# Altium integrated library TI Power Management PCMCIA and USB.IntLib: 328 symbols (part 11 of 14)
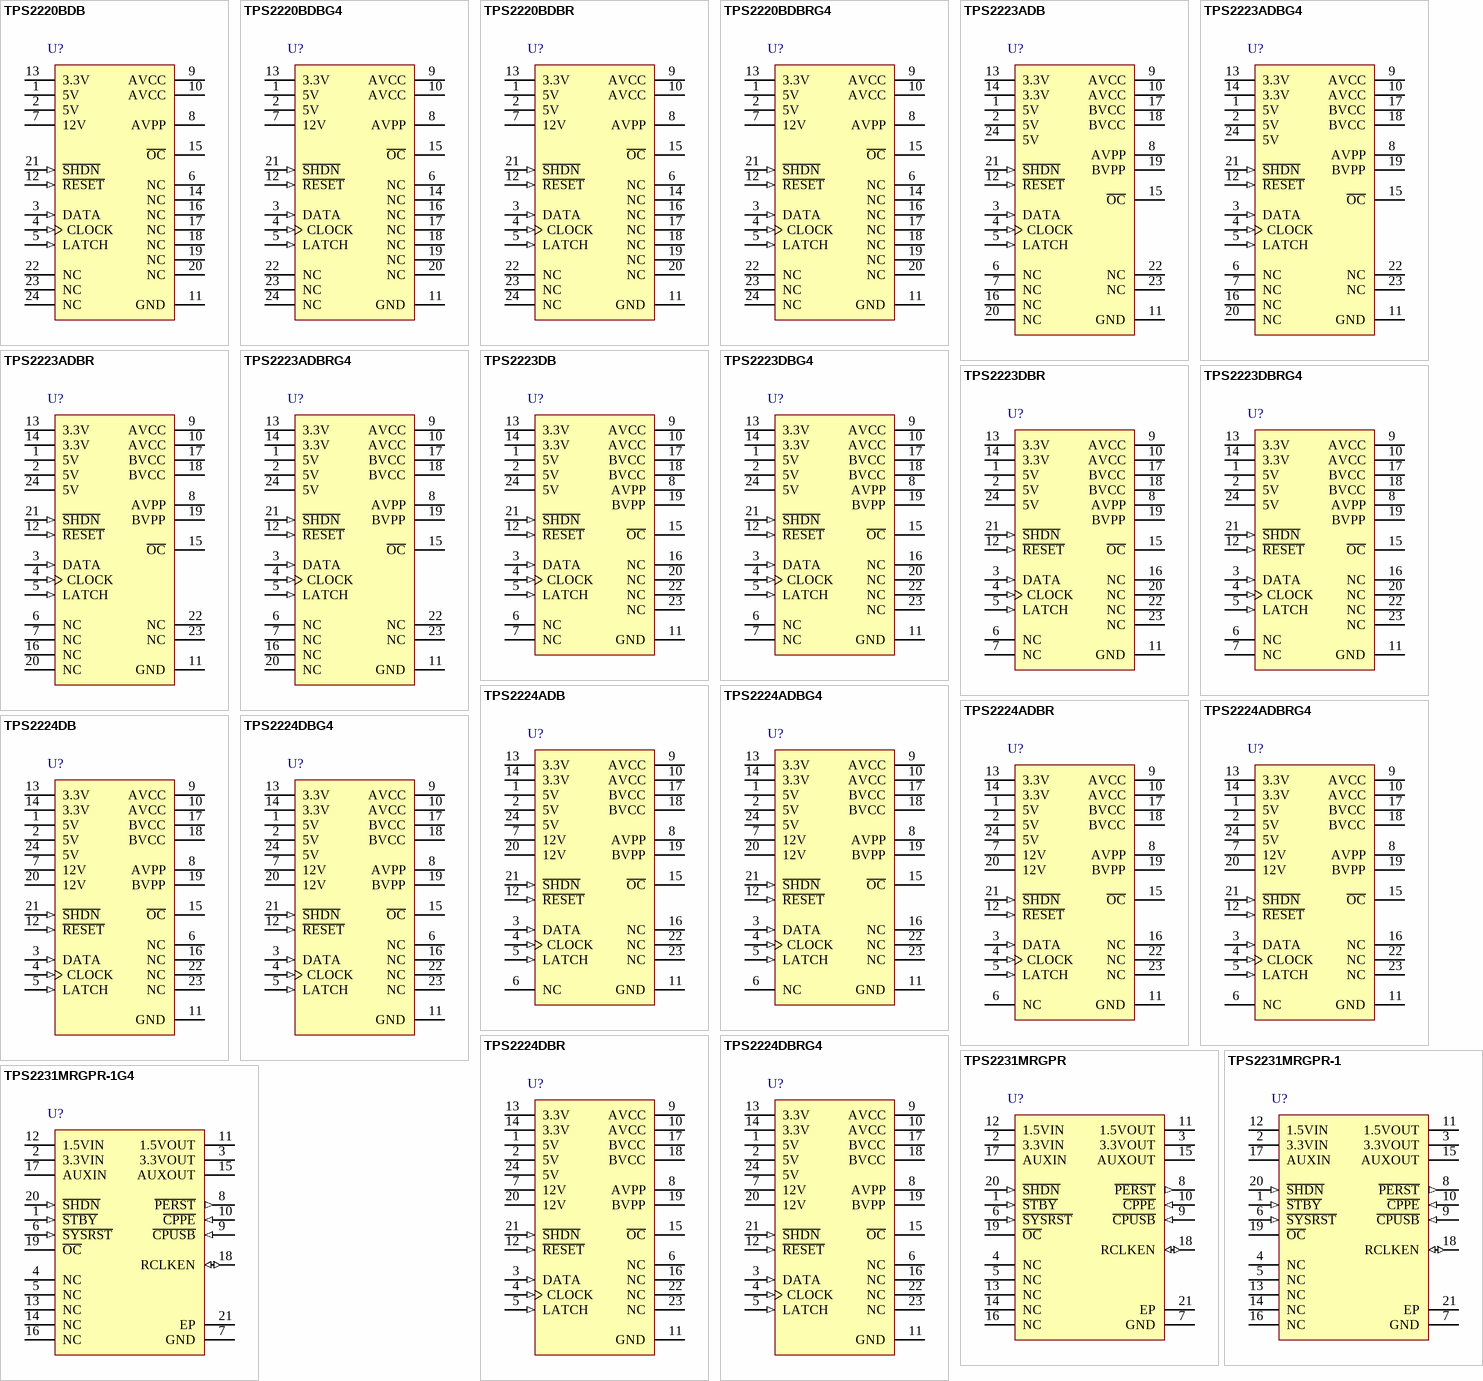
[diagram p20: symbols TPS2220BDB to TPS2231MRGPR-1G4]

## TPS2223ADB
designator U?
Dual-Slot Cardbus Power-Interface Switch for Serial PCMCIA Controllers, -40 to 85 degC, 24-pin SSOP (DB), Green (RoHS & no Sb/Br); Manufacturer: Texas Instruments; PartNumber: TPS2223ADB; 3V rDS(on)(Typ)(mOhm): 85; 5V rDS(on)(Typ)(mOhm): 95; Adjustable Current Limit(Min)(A): 1; Curr/Temp Protection: TRUE; Ports: 2; SubFamily: PCMCIA/Cardbus Switch Matrix; DatasheetVersion: SLVS428E; PackageVersion: revE, Dec-2001; PackageReference: DB24; PackageDescription: 24-Pin Plastic Small Outline Package, 8.2 x 5.3 mm Body, 0.65 mm Pitch; Supplier 1: Digi-Key; Supplier Part Number 1: 296-13015-5-ND; Supplier 2: Newark; Supplier Part Number 2: 77C0141; Supplier 3: Mouser; Supplier Part Number 3: 595-TPS2223ADB; Dual: TRUE; Interface: Serial; Over Current Reporting: TRUE; Supports 12V: TRUE; Supports VPP: TRUE; Mounting Technology: Surface Mount; Code_JEDEC: MO-150; ComponentLink1Description: Datasheet; ComponentLink1URL: http://www.ti.com/general/docs/lit/getliterature.tsp?genericPartNumber=TPS2223A&fileType=pdf
footprint DB24_N (SOP, 24-Leads, Body 8.2x5.3mm, Pitch 0.65mm, IPC Medium Density)
footprint DB24_L (SOP, 24-Leads, Body 8.2x5.3mm, Pitch 0.65mm, IPC High Density)
footprint DB24_M (SOP, 24-Leads, Body 8.2x5.3mm, Pitch 0.65mm, IPC Low Density)
pins: 1 5V (power) "5-V input for card power", 2 5V (power) "5-V input for card power", 3 DATA (in) "Logic-level serial data word", 4 CLOCK (in) "Logic-level clock for serial data word", 5 LATCH (in) "Logic-level latch for serial data word, internal pulldown", 6 NC "No internal connection", 7 NC "No internal connection", 8 AVPP (power) "Switched output that delivers 3.3 V, 5 V, ground or high impedance to card", 9 AVCC (power) "Switched output that delivers 3.3 V, 5 V, ground or high impedance to card", 10 AVCC (power) "Switched output that delivers 3.3 V, 5 V, ground or high impedance to card", 11 GND (power) "Ground", 12 ~{RESET} (in) "Logic-level RESET input active low. Asynchronous active-low command, internal pullup", 13 3.3V (power) "3.3-V input for card power and chip power", 14 3.3V (power) "3.3-V input for card power and chip power", 15 ~{OC} (oc) "Open-drain overcurrent reporting output that goes low when an overcurrent condition exists. An external pullup is required.", 16 NC "No internal connection", 17 BVCC (power) "Switched output that delivers 3.3 V, 5 V, ground or high impedance to card", 18 BVCC (power) "Switched output that delivers 3.3 V, 5 V, ground or high impedance to card", 19 BVPP (power) "Switched output that delivers 3.3 V, 5 V, ground or high impedance to card", 20 NC "No internal connection", 21 ~{SHDN} (in) "Hi-Z (open) all switches. Identical function to serial D8. Asynchronous active-low command, internal pullup", 22 NC "No internal connection", 23 NC "No internal connection", 24 5V (power) "5-V input for card power"

## TPS2223ADBG4
designator U?
Dual-Slot Cardbus Power-Interface Switch for Serial PCMCIA Controllers, -40 to 85 degC, 24-pin SSOP (DB), Green (RoHS & no Sb/Br); Manufacturer: Texas Instruments; PartNumber: TPS2223ADBG4; 3V rDS(on)(Typ)(mOhm): 85; 5V rDS(on)(Typ)(mOhm): 95; Adjustable Current Limit(Min)(A): 1; Curr/Temp Protection: TRUE; Ports: 2; SubFamily: PCMCIA/Cardbus Switch Matrix; DatasheetVersion: SLVS428E; PackageVersion: revE, Dec-2001; PackageReference: DB24; PackageDescription: 24-Pin Plastic Small Outline Package, 8.2 x 5.3 mm Body, 0.65 mm Pitch; Supplier 1: Digi-Key; Supplier Part Number 1: TPS2223ADBG4-ND; Supplier 2: Newark; Supplier Part Number 2: 66K4510; Supplier 3: Mouser; Supplier Part Number 3: 595-TPS2223ADBG4; Dual: TRUE; Interface: Serial; Over Current Reporting: TRUE; Supports 12V: TRUE; Supports VPP: TRUE; Mounting Technology: Surface Mount; Code_JEDEC: MO-150; ComponentLink1Description: Datasheet; ComponentLink1URL: http://www.ti.com/general/docs/lit/getliterature.tsp?genericPartNumber=TPS2223A&fileType=pdf
footprint DB24_N (SOP, 24-Leads, Body 8.2x5.3mm, Pitch 0.65mm, IPC Medium Density)
footprint DB24_L (SOP, 24-Leads, Body 8.2x5.3mm, Pitch 0.65mm, IPC High Density)
footprint DB24_M (SOP, 24-Leads, Body 8.2x5.3mm, Pitch 0.65mm, IPC Low Density)
pins: 1 5V (power) "5-V input for card power", 2 5V (power) "5-V input for card power", 3 DATA (in) "Logic-level serial data word", 4 CLOCK (in) "Logic-level clock for serial data word", 5 LATCH (in) "Logic-level latch for serial data word, internal pulldown", 6 NC "No internal connection", 7 NC "No internal connection", 8 AVPP (power) "Switched output that delivers 3.3 V, 5 V, ground or high impedance to card", 9 AVCC (power) "Switched output that delivers 3.3 V, 5 V, ground or high impedance to card", 10 AVCC (power) "Switched output that delivers 3.3 V, 5 V, ground or high impedance to card", 11 GND (power) "Ground", 12 ~{RESET} (in) "Logic-level RESET input active low. Asynchronous active-low command, internal pullup", 13 3.3V (power) "3.3-V input for card power and chip power", 14 3.3V (power) "3.3-V input for card power and chip power", 15 ~{OC} (oc) "Open-drain overcurrent reporting output that goes low when an overcurrent condition exists. An external pullup is required.", 16 NC "No internal connection", 17 BVCC (power) "Switched output that delivers 3.3 V, 5 V, ground or high impedance to card", 18 BVCC (power) "Switched output that delivers 3.3 V, 5 V, ground or high impedance to card", 19 BVPP (power) "Switched output that delivers 3.3 V, 5 V, ground or high impedance to card", 20 NC "No internal connection", 21 ~{SHDN} (in) "Hi-Z (open) all switches. Identical function to serial D8. Asynchronous active-low command, internal pullup", 22 NC "No internal connection", 23 NC "No internal connection", 24 5V (power) "5-V input for card power"

## TPS2223ADBR
designator U?
Dual-Slot Cardbus Power-Interface Switch for Serial PCMCIA Controllers, -40 to 85 degC, 24-pin SSOP (DB), Green (RoHS & no Sb/Br); Manufacturer: Texas Instruments; PartNumber: TPS2223ADBR; 3V rDS(on)(Typ)(mOhm): 85; 5V rDS(on)(Typ)(mOhm): 95; Adjustable Current Limit(Min)(A): 1; Curr/Temp Protection: TRUE; Ports: 2; SubFamily: PCMCIA/Cardbus Switch Matrix; DatasheetVersion: SLVS428E; PackageVersion: revE, Dec-2001; PackageReference: DB24; PackageDescription: 24-Pin Plastic Small Outline Package, 8.2 x 5.3 mm Body, 0.65 mm Pitch; Supplier 1: Digi-Key; Supplier Part Number 1: TPS2223ADBR-ND; Supplier 2: Newark; Supplier Part Number 2: 77C0142; Supplier 3: Mouser; Supplier Part Number 3: 595-TPS2223ADBR; Dual: TRUE; Interface: Serial; Over Current Reporting: TRUE; Supports 12V: TRUE; Supports VPP: TRUE; Mounting Technology: Surface Mount; Code_JEDEC: MO-150; ComponentLink1Description: Datasheet; ComponentLink1URL: http://www.ti.com/general/docs/lit/getliterature.tsp?genericPartNumber=TPS2223A&fileType=pdf
footprint DB24_N (SOP, 24-Leads, Body 8.2x5.3mm, Pitch 0.65mm, IPC Medium Density)
footprint DB24_L (SOP, 24-Leads, Body 8.2x5.3mm, Pitch 0.65mm, IPC High Density)
footprint DB24_M (SOP, 24-Leads, Body 8.2x5.3mm, Pitch 0.65mm, IPC Low Density)
pins: 1 5V (power) "5-V input for card power", 2 5V (power) "5-V input for card power", 3 DATA (in) "Logic-level serial data word", 4 CLOCK (in) "Logic-level clock for serial data word", 5 LATCH (in) "Logic-level latch for serial data word, internal pulldown", 6 NC "No internal connection", 7 NC "No internal connection", 8 AVPP (power) "Switched output that delivers 3.3 V, 5 V, ground or high impedance to card", 9 AVCC (power) "Switched output that delivers 3.3 V, 5 V, ground or high impedance to card", 10 AVCC (power) "Switched output that delivers 3.3 V, 5 V, ground or high impedance to card", 11 GND (power) "Ground", 12 ~{RESET} (in) "Logic-level RESET input active low. Asynchronous active-low command, internal pullup", 13 3.3V (power) "3.3-V input for card power and chip power", 14 3.3V (power) "3.3-V input for card power and chip power", 15 ~{OC} (oc) "Open-drain overcurrent reporting output that goes low when an overcurrent condition exists. An external pullup is required.", 16 NC "No internal connection", 17 BVCC (power) "Switched output that delivers 3.3 V, 5 V, ground or high impedance to card", 18 BVCC (power) "Switched output that delivers 3.3 V, 5 V, ground or high impedance to card", 19 BVPP (power) "Switched output that delivers 3.3 V, 5 V, ground or high impedance to card", 20 NC "No internal connection", 21 ~{SHDN} (in) "Hi-Z (open) all switches. Identical function to serial D8. Asynchronous active-low command, internal pullup", 22 NC "No internal connection", 23 NC "No internal connection", 24 5V (power) "5-V input for card power"

## TPS2223ADBRG4
designator U?
Dual-Slot Cardbus Power-Interface Switch for Serial PCMCIA Controllers, -40 to 85 degC, 24-pin SSOP (DB), Green (RoHS & no Sb/Br); Manufacturer: Texas Instruments; PartNumber: TPS2223ADBRG4; 3V rDS(on)(Typ)(mOhm): 85; 5V rDS(on)(Typ)(mOhm): 95; Adjustable Current Limit(Min)(A): 1; Curr/Temp Protection: TRUE; Ports: 2; SubFamily: PCMCIA/Cardbus Switch Matrix; DatasheetVersion: SLVS428E; PackageVersion: revE, Dec-2001; PackageReference: DB24; PackageDescription: 24-Pin Plastic Small Outline Package, 8.2 x 5.3 mm Body, 0.65 mm Pitch; Supplier 1: Digi-Key; Supplier Part Number 1: TPS2223ADBRG4-ND; Supplier 2: Newark; Supplier Part Number 2: 24K5849; Supplier 3: Mouser; Supplier Part Number 3: 595-TPS2223ADBRG4; Dual: TRUE; Interface: Serial; Over Current Reporting: TRUE; Supports 12V: TRUE; Supports VPP: TRUE; Mounting Technology: Surface Mount; Code_JEDEC: MO-150; ComponentLink1Description: Datasheet; ComponentLink1URL: http://www.ti.com/general/docs/lit/getliterature.tsp?genericPartNumber=TPS2223A&fileType=pdf
footprint DB24_N (SOP, 24-Leads, Body 8.2x5.3mm, Pitch 0.65mm, IPC Medium Density)
footprint DB24_L (SOP, 24-Leads, Body 8.2x5.3mm, Pitch 0.65mm, IPC High Density)
footprint DB24_M (SOP, 24-Leads, Body 8.2x5.3mm, Pitch 0.65mm, IPC Low Density)
pins: 1 5V (power) "5-V input for card power", 2 5V (power) "5-V input for card power", 3 DATA (in) "Logic-level serial data word", 4 CLOCK (in) "Logic-level clock for serial data word", 5 LATCH (in) "Logic-level latch for serial data word, internal pulldown", 6 NC "No internal connection", 7 NC "No internal connection", 8 AVPP (power) "Switched output that delivers 3.3 V, 5 V, ground or high impedance to card", 9 AVCC (power) "Switched output that delivers 3.3 V, 5 V, ground or high impedance to card", 10 AVCC (power) "Switched output that delivers 3.3 V, 5 V, ground or high impedance to card", 11 GND (power) "Ground", 12 ~{RESET} (in) "Logic-level RESET input active low. Asynchronous active-low command, internal pullup", 13 3.3V (power) "3.3-V input for card power and chip power", 14 3.3V (power) "3.3-V input for card power and chip power", 15 ~{OC} (oc) "Open-drain overcurrent reporting output that goes low when an overcurrent condition exists. An external pullup is required.", 16 NC "No internal connection", 17 BVCC (power) "Switched output that delivers 3.3 V, 5 V, ground or high impedance to card", 18 BVCC (power) "Switched output that delivers 3.3 V, 5 V, ground or high impedance to card", 19 BVPP (power) "Switched output that delivers 3.3 V, 5 V, ground or high impedance to card", 20 NC "No internal connection", 21 ~{SHDN} (in) "Hi-Z (open) all switches. Identical function to serial D8. Asynchronous active-low command, internal pullup", 22 NC "No internal connection", 23 NC "No internal connection", 24 5V (power) "5-V input for card power"

## TPS2223DB
designator U?
1 A Dual-Slot PC Card Power Switch with Serial Interface, No 12 V Support, -40 to 85 degC, 24-pin SSOP (DB), Green (RoHS & no Sb/Br); Manufacturer: Texas Instruments; PartNumber: TPS2223DB; 3V rDS(on)(Typ)(mOhm): 85; 5V rDS(on)(Typ)(mOhm): 95; Adjustable Current Limit(Min)(A): 1; Curr/Temp Protection: TRUE; Ports: 2; SubFamily: PCMCIA/Cardbus Switch Matrix; DatasheetVersion: SLVS317; PackageVersion: revE, Dec-2001; PackageReference: DB24; PackageDescription: 24-Pin Plastic Small Outline Package, 8.2 x 5.3 mm Body, 0.65 mm Pitch; Supplier 1: Digi-Key; Supplier Part Number 1: 296-12387-5-ND; Supplier 2: Newark; Supplier Part Number 2: 77C0145; Supplier 3: Mouser; Supplier Part Number 3: 595-TPS2223DB; Dual: TRUE; Interface: Serial; Over Current Reporting: TRUE; Supports VPP: TRUE; Mounting Technology: Surface Mount; Code_JEDEC: MO-150; ComponentLink1Description: Datasheet; ComponentLink1URL: http://www.ti.com/general/docs/lit/getliterature.tsp?genericPartNumber=TPS2223&fileType=pdf
footprint DB24_N (SOP, 24-Leads, Body 8.2x5.3mm, Pitch 0.65mm, IPC Medium Density)
footprint DB24_L (SOP, 24-Leads, Body 8.2x5.3mm, Pitch 0.65mm, IPC High Density)
footprint DB24_M (SOP, 24-Leads, Body 8.2x5.3mm, Pitch 0.65mm, IPC Low Density)
pins: 1 5V (power) "5-V input for card power", 2 5V (power) "5-V input for card power", 3 DATA (in) "Logic-level serial data word", 4 CLOCK (in) "Logic-level clock for serial data word", 5 LATCH (in) "Logic-level latch for serial data word, internal pulldown", 6 NC "No internal connection", 7 NC "No internal connection", 8 AVPP (power) "Switched output that delivers 3.3 V, 5 V, ground or high impedance to card", 9 AVCC (power) "Switched output that delivers 3.3 V, 5 V, ground or high impedance to card", 10 AVCC (power) "Switched output that delivers 3.3 V, 5 V, ground or high impedance to card", 11 GND (power) "Ground", 12 ~{RESET} (in) "Logic-level R\E\S\E\T\ input active low. Asynchronous active-low command, internal pullup", 13 3.3V (power) "3.3-V input for card power and chip power", 14 3.3V (power) "3.3-V input for card power and chip power", 15 ~{OC} (oc) "Open-drain overcurrent reporting output that goes low when an overcurrent condition exists. An external pullup is required.", 16 NC "No internal connection", 17 BVCC (power) "Switched output that delivers 3.3 V, 5 V, ground or high impedance to card", 18 BVCC (power) "Switched output that delivers 3.3 V, 5 V, ground or high impedance to card", 19 BVPP (power) "Switched output that delivers 3.3 V, 5 V, ground or high impedance to card", 20 NC "No internal connection", 21 ~{SHDN} (in) "Hi-Z (open) all switches. Identical function to serial D8. Asynchronous active-low command, internal pullup", 22 NC "No internal connection", 23 NC "No internal connection", 24 5V (power) "5-V input for card power"

## TPS2223DBG4
designator U?
1 A Dual-Slot PC Card Power Switch with Serial Interface, No 12 V Support, -40 to 85 degC, 24-pin SSOP (DB), Green (RoHS & no Sb/Br); Manufacturer: Texas Instruments; PartNumber: TPS2223DBG4; 3V rDS(on)(Typ)(mOhm): 85; 5V rDS(on)(Typ)(mOhm): 95; Adjustable Current Limit(Min)(A): 1; Curr/Temp Protection: TRUE; Ports: 2; SubFamily: PCMCIA/Cardbus Switch Matrix; DatasheetVersion: SLVS317; PackageVersion: revE, Dec-2001; PackageReference: DB24; PackageDescription: 24-Pin Plastic Small Outline Package, 8.2 x 5.3 mm Body, 0.65 mm Pitch; Supplier 1: Digi-Key; Supplier Part Number 1: TPS2223DBG4-ND; Supplier 2: Newark; Supplier Part Number 2: 66K4512; Supplier 3: Mouser; Supplier Part Number 3: 595-TPS2223DBG4; Dual: TRUE; Interface: Serial; Over Current Reporting: TRUE; Supports VPP: TRUE; Mounting Technology: Surface Mount; Code_JEDEC: MO-150; ComponentLink1Description: Datasheet; ComponentLink1URL: http://www.ti.com/general/docs/lit/getliterature.tsp?genericPartNumber=TPS2223&fileType=pdf
footprint DB24_N (SOP, 24-Leads, Body 8.2x5.3mm, Pitch 0.65mm, IPC Medium Density)
footprint DB24_L (SOP, 24-Leads, Body 8.2x5.3mm, Pitch 0.65mm, IPC High Density)
footprint DB24_M (SOP, 24-Leads, Body 8.2x5.3mm, Pitch 0.65mm, IPC Low Density)
pins: 1 5V (power) "5-V input for card power", 2 5V (power) "5-V input for card power", 3 DATA (in) "Logic-level serial data word", 4 CLOCK (in) "Logic-level clock for serial data word", 5 LATCH (in) "Logic-level latch for serial data word, internal pulldown", 6 NC "No internal connection", 7 NC "No internal connection", 8 AVPP (power) "Switched output that delivers 3.3 V, 5 V, ground or high impedance to card", 9 AVCC (power) "Switched output that delivers 3.3 V, 5 V, ground or high impedance to card", 10 AVCC (power) "Switched output that delivers 3.3 V, 5 V, ground or high impedance to card", 11 GND (power) "Ground", 12 ~{RESET} (in) "Logic-level R\E\S\E\T\ input active low. Asynchronous active-low command, internal pullup", 13 3.3V (power) "3.3-V input for card power and chip power", 14 3.3V (power) "3.3-V input for card power and chip power", 15 ~{OC} (oc) "Open-drain overcurrent reporting output that goes low when an overcurrent condition exists. An external pullup is required.", 16 NC "No internal connection", 17 BVCC (power) "Switched output that delivers 3.3 V, 5 V, ground or high impedance to card", 18 BVCC (power) "Switched output that delivers 3.3 V, 5 V, ground or high impedance to card", 19 BVPP (power) "Switched output that delivers 3.3 V, 5 V, ground or high impedance to card", 20 NC "No internal connection", 21 ~{SHDN} (in) "Hi-Z (open) all switches. Identical function to serial D8. Asynchronous active-low command, internal pullup", 22 NC "No internal connection", 23 NC "No internal connection", 24 5V (power) "5-V input for card power"

## TPS2223DBR
designator U?
1 A Dual-Slot PC Card Power Switch with Serial Interface, No 12 V Support, -40 to 85 degC, 24-pin SSOP (DB), Green (RoHS & no Sb/Br); Manufacturer: Texas Instruments; PartNumber: TPS2223DBR; 3V rDS(on)(Typ)(mOhm): 85; 5V rDS(on)(Typ)(mOhm): 95; Adjustable Current Limit(Min)(A): 1; Curr/Temp Protection: TRUE; Ports: 2; SubFamily: PCMCIA/Cardbus Switch Matrix; DatasheetVersion: SLVS317; PackageVersion: revE, Dec-2001; PackageReference: DB24; PackageDescription: 24-Pin Plastic Small Outline Package, 8.2 x 5.3 mm Body, 0.65 mm Pitch; Supplier 1: Digi-Key; Supplier Part Number 1: TPS2223DBR-ND; Supplier 2: Newark; Supplier Part Number 2: 77C0146; Supplier 3: Mouser; Supplier Part Number 3: 595-TPS2223DBR; Dual: TRUE; Interface: Serial; Over Current Reporting: TRUE; Supports VPP: TRUE; Mounting Technology: Surface Mount; Code_JEDEC: MO-150; ComponentLink1Description: Datasheet; ComponentLink1URL: http://www.ti.com/general/docs/lit/getliterature.tsp?genericPartNumber=TPS2223&fileType=pdf
footprint DB24_N (SOP, 24-Leads, Body 8.2x5.3mm, Pitch 0.65mm, IPC Medium Density)
footprint DB24_L (SOP, 24-Leads, Body 8.2x5.3mm, Pitch 0.65mm, IPC High Density)
footprint DB24_M (SOP, 24-Leads, Body 8.2x5.3mm, Pitch 0.65mm, IPC Low Density)
pins: 1 5V (power) "5-V input for card power", 2 5V (power) "5-V input for card power", 3 DATA (in) "Logic-level serial data word", 4 CLOCK (in) "Logic-level clock for serial data word", 5 LATCH (in) "Logic-level latch for serial data word, internal pulldown", 6 NC "No internal connection", 7 NC "No internal connection", 8 AVPP (power) "Switched output that delivers 3.3 V, 5 V, ground or high impedance to card", 9 AVCC (power) "Switched output that delivers 3.3 V, 5 V, ground or high impedance to card", 10 AVCC (power) "Switched output that delivers 3.3 V, 5 V, ground or high impedance to card", 11 GND (power) "Ground", 12 ~{RESET} (in) "Logic-level R\E\S\E\T\ input active low. Asynchronous active-low command, internal pullup", 13 3.3V (power) "3.3-V input for card power and chip power", 14 3.3V (power) "3.3-V input for card power and chip power", 15 ~{OC} (oc) "Open-drain overcurrent reporting output that goes low when an overcurrent condition exists. An external pullup is required.", 16 NC "No internal connection", 17 BVCC (power) "Switched output that delivers 3.3 V, 5 V, ground or high impedance to card", 18 BVCC (power) "Switched output that delivers 3.3 V, 5 V, ground or high impedance to card", 19 BVPP (power) "Switched output that delivers 3.3 V, 5 V, ground or high impedance to card", 20 NC "No internal connection", 21 ~{SHDN} (in) "Hi-Z (open) all switches. Identical function to serial D8. Asynchronous active-low command, internal pullup", 22 NC "No internal connection", 23 NC "No internal connection", 24 5V (power) "5-V input for card power"

## TPS2223DBRG4
designator U?
1 A Dual-Slot PC Card Power Switch with Serial Interface, No 12 V Support, -40 to 85 degC, 24-pin SSOP (DB), Green (RoHS & no Sb/Br); Manufacturer: Texas Instruments; PartNumber: TPS2223DBRG4; 3V rDS(on)(Typ)(mOhm): 85; 5V rDS(on)(Typ)(mOhm): 95; Adjustable Current Limit(Min)(A): 1; Curr/Temp Protection: TRUE; Ports: 2; SubFamily: PCMCIA/Cardbus Switch Matrix; DatasheetVersion: SLVS317; PackageVersion: revE, Dec-2001; PackageReference: DB24; PackageDescription: 24-Pin Plastic Small Outline Package, 8.2 x 5.3 mm Body, 0.65 mm Pitch; Supplier 1: Digi-Key; Supplier Part Number 1: TPS2223DBRG4-ND; Supplier 2: Newark; Supplier Part Number 2: 70K5709; Supplier 3: Mouser; Supplier Part Number 3: 595-TPS2223DBRG4; Dual: TRUE; Interface: Serial; Over Current Reporting: TRUE; Supports VPP: TRUE; Mounting Technology: Surface Mount; Code_JEDEC: MO-150; ComponentLink1Description: Datasheet; ComponentLink1URL: http://www.ti.com/general/docs/lit/getliterature.tsp?genericPartNumber=TPS2223&fileType=pdf
footprint DB24_N (SOP, 24-Leads, Body 8.2x5.3mm, Pitch 0.65mm, IPC Medium Density)
footprint DB24_L (SOP, 24-Leads, Body 8.2x5.3mm, Pitch 0.65mm, IPC High Density)
footprint DB24_M (SOP, 24-Leads, Body 8.2x5.3mm, Pitch 0.65mm, IPC Low Density)
pins: 1 5V (power) "5-V input for card power", 2 5V (power) "5-V input for card power", 3 DATA (in) "Logic-level serial data word", 4 CLOCK (in) "Logic-level clock for serial data word", 5 LATCH (in) "Logic-level latch for serial data word, internal pulldown", 6 NC "No internal connection", 7 NC "No internal connection", 8 AVPP (power) "Switched output that delivers 3.3 V, 5 V, ground or high impedance to card", 9 AVCC (power) "Switched output that delivers 3.3 V, 5 V, ground or high impedance to card", 10 AVCC (power) "Switched output that delivers 3.3 V, 5 V, ground or high impedance to card", 11 GND (power) "Ground", 12 ~{RESET} (in) "Logic-level R\E\S\E\T\ input active low. Asynchronous active-low command, internal pullup", 13 3.3V (power) "3.3-V input for card power and chip power", 14 3.3V (power) "3.3-V input for card power and chip power", 15 ~{OC} (oc) "Open-drain overcurrent reporting output that goes low when an overcurrent condition exists. An external pullup is required.", 16 NC "No internal connection", 17 BVCC (power) "Switched output that delivers 3.3 V, 5 V, ground or high impedance to card", 18 BVCC (power) "Switched output that delivers 3.3 V, 5 V, ground or high impedance to card", 19 BVPP (power) "Switched output that delivers 3.3 V, 5 V, ground or high impedance to card", 20 NC "No internal connection", 21 ~{SHDN} (in) "Hi-Z (open) all switches. Identical function to serial D8. Asynchronous active-low command, internal pullup", 22 NC "No internal connection", 23 NC "No internal connection", 24 5V (power) "5-V input for card power"

## TPS2224ADB
designator U?
Dual-Slot Cardbus Power-Interface Switch for Serial PCMCIA Controllers, -40 to 85 degC, 24-pin SSOP (DB), Green (RoHS & no Sb/Br); Manufacturer: Texas Instruments; PartNumber: TPS2224ADB; 3V rDS(on)(Typ)(mOhm): 85; 5V rDS(on)(Typ)(mOhm): 95; Adjustable Current Limit(Min)(A): 1; Curr/Temp Protection: TRUE; Ports: 2; SubFamily: PCMCIA/Cardbus Switch Matrix; DatasheetVersion: SLVS428E; PackageVersion: revE, Dec-2001; PackageReference: DB24; PackageDescription: 24-Pin Plastic Small Outline Package, 8.2 x 5.3 mm Body, 0.65 mm Pitch; Supplier 1: Digi-Key; Supplier Part Number 1: 296-13017-5-ND; Supplier 2: Newark; Supplier Part Number 2: 77C0149; Supplier 3: Mouser; Supplier Part Number 3: 595-TPS2224ADB; Dual: TRUE; Interface: Serial; Over Current Reporting: TRUE; Supports 12V: TRUE; Supports VPP: TRUE; Mounting Technology: Surface Mount; Code_JEDEC: MO-150; ComponentLink1Description: Datasheet; ComponentLink1URL: http://www.ti.com/general/docs/lit/getliterature.tsp?genericPartNumber=TPS2224A&fileType=pdf
footprint DB24_N (SOP, 24-Leads, Body 8.2x5.3mm, Pitch 0.65mm, IPC Medium Density)
footprint DB24_L (SOP, 24-Leads, Body 8.2x5.3mm, Pitch 0.65mm, IPC High Density)
footprint DB24_M (SOP, 24-Leads, Body 8.2x5.3mm, Pitch 0.65mm, IPC Low Density)
pins: 1 5V (power) "5-V input for card power", 2 5V (power) "5-V input for card power", 3 DATA (in) "Logic-level serial data word", 4 CLOCK (in) "Logic-level clock for serial data word", 5 LATCH (in) "Logic-level latch for serial data word, internal pulldown", 6 NC "No internal connection", 7 12V (power) "12-V input for card power (xVPP). The two 12-V pins must be externally connected.", 8 AVPP (power) "Switched output that delivers 3.3 V, 5 V, 12 V, ground or high impedance to card", 9 AVCC (power) "Switched output that delivers 3.3 V, 5 V, ground or high impedance to caed", 10 AVCC (power) "Switched output that delivers 3.3 V, 5 V, ground or high impedance to caed", 11 GND (power) "Ground", 12 ~{RESET} (in) "Logic-level RESET input active low. Asynchronous active-low command, internal pullup", 13 3.3V (power) "3.3-V input for card power and chip power", 14 3.3V (power) "3.3-V input for card power and chip power", 15 ~{OC} (oc) "Open-drain overcurrent reporting output that goes low when an overcurrent condition exists. An external pullup is required.", 16 NC "No internal connection", 17 BVCC (power) "Switched output that delivers 3.3 V, 5 V, ground or high impedance to card", 18 BVCC (power) "Switched output that delivers 3.3 V, 5 V, ground or high impedance to card", 19 BVPP (power) "Switched output that delivers 3.3 V, 5 V, 12 V, ground or high impedance to card", 20 12V (power) "12-V input for card power (xVPP). The two 12-V pins must be externally connected.", 21 ~{SHDN} (in) "Hi-Z (open) all switches. Identical function to serial D8. Asynchronous active-low command, internal pullup", 22 NC "No internal connection", 23 NC "No internal connection", 24 5V (power) "5-V input for card power"

## TPS2224ADBG4
designator U?
Dual-Slot Cardbus Power-Interface Switch for Serial PCMCIA Controllers, -40 to 85 degC, 24-pin SSOP (DB), Green (RoHS & no Sb/Br); Manufacturer: Texas Instruments; PartNumber: TPS2224ADBG4; 3V rDS(on)(Typ)(mOhm): 85; 5V rDS(on)(Typ)(mOhm): 95; Adjustable Current Limit(Min)(A): 1; Curr/Temp Protection: TRUE; Ports: 2; SubFamily: PCMCIA/Cardbus Switch Matrix; DatasheetVersion: SLVS428E; PackageVersion: revE, Dec-2001; PackageReference: DB24; PackageDescription: 24-Pin Plastic Small Outline Package, 8.2 x 5.3 mm Body, 0.65 mm Pitch; Supplier 1: Digi-Key; Supplier Part Number 1: TPS2224ADBG4-ND; Supplier 2: Mouser; Supplier Part Number 2: 595-TPS2224ADBG4; Dual: TRUE; Interface: Serial; Over Current Reporting: TRUE; Supports 12V: TRUE; Supports VPP: TRUE; Mounting Technology: Surface Mount; Code_JEDEC: MO-150; ComponentLink1Description: Datasheet; ComponentLink1URL: http://www.ti.com/general/docs/lit/getliterature.tsp?genericPartNumber=TPS2224A&fileType=pdf
footprint DB24_N (SOP, 24-Leads, Body 8.2x5.3mm, Pitch 0.65mm, IPC Medium Density)
footprint DB24_L (SOP, 24-Leads, Body 8.2x5.3mm, Pitch 0.65mm, IPC High Density)
footprint DB24_M (SOP, 24-Leads, Body 8.2x5.3mm, Pitch 0.65mm, IPC Low Density)
pins: 1 5V (power) "5-V input for card power", 2 5V (power) "5-V input for card power", 3 DATA (in) "Logic-level serial data word", 4 CLOCK (in) "Logic-level clock for serial data word", 5 LATCH (in) "Logic-level latch for serial data word, internal pulldown", 6 NC "No internal connection", 7 12V (power) "12-V input for card power (xVPP). The two 12-V pins must be externally connected.", 8 AVPP (power) "Switched output that delivers 3.3 V, 5 V, 12 V, ground or high impedance to card", 9 AVCC (power) "Switched output that delivers 3.3 V, 5 V, ground or high impedance to caed", 10 AVCC (power) "Switched output that delivers 3.3 V, 5 V, ground or high impedance to caed", 11 GND (power) "Ground", 12 ~{RESET} (in) "Logic-level RESET input active low. Asynchronous active-low command, internal pullup", 13 3.3V (power) "3.3-V input for card power and chip power", 14 3.3V (power) "3.3-V input for card power and chip power", 15 ~{OC} (oc) "Open-drain overcurrent reporting output that goes low when an overcurrent condition exists. An external pullup is required.", 16 NC "No internal connection", 17 BVCC (power) "Switched output that delivers 3.3 V, 5 V, ground or high impedance to card", 18 BVCC (power) "Switched output that delivers 3.3 V, 5 V, ground or high impedance to card", 19 BVPP (power) "Switched output that delivers 3.3 V, 5 V, 12 V, ground or high impedance to card", 20 12V (power) "12-V input for card power (xVPP). The two 12-V pins must be externally connected.", 21 ~{SHDN} (in) "Hi-Z (open) all switches. Identical function to serial D8. Asynchronous active-low command, internal pullup", 22 NC "No internal connection", 23 NC "No internal connection", 24 5V (power) "5-V input for card power"

## TPS2224ADBR
designator U?
Dual-Slot Cardbus Power-Interface Switch for Serial PCMCIA Controllers, -40 to 85 degC, 24-pin SSOP (DB), Green (RoHS & no Sb/Br); Manufacturer: Texas Instruments; PartNumber: TPS2224ADBR; 3V rDS(on)(Typ)(mOhm): 85; 5V rDS(on)(Typ)(mOhm): 95; Adjustable Current Limit(Min)(A): 1; Curr/Temp Protection: TRUE; Ports: 2; SubFamily: PCMCIA/Cardbus Switch Matrix; DatasheetVersion: SLVS428E; PackageVersion: revE, Dec-2001; PackageReference: DB24; PackageDescription: 24-Pin Plastic Small Outline Package, 8.2 x 5.3 mm Body, 0.65 mm Pitch; Supplier 1: Digi-Key; Supplier Part Number 1: TPS2224ADBR-ND; Supplier 2: Newark; Supplier Part Number 2: 77C0150; Supplier 3: Mouser; Supplier Part Number 3: 595-TPS2224ADBR; Dual: TRUE; Interface: Serial; Over Current Reporting: TRUE; Supports 12V: TRUE; Supports VPP: TRUE; Mounting Technology: Surface Mount; Code_JEDEC: MO-150; ComponentLink1Description: Datasheet; ComponentLink1URL: http://www.ti.com/general/docs/lit/getliterature.tsp?genericPartNumber=TPS2224A&fileType=pdf
footprint DB24_N (SOP, 24-Leads, Body 8.2x5.3mm, Pitch 0.65mm, IPC Medium Density)
footprint DB24_L (SOP, 24-Leads, Body 8.2x5.3mm, Pitch 0.65mm, IPC High Density)
footprint DB24_M (SOP, 24-Leads, Body 8.2x5.3mm, Pitch 0.65mm, IPC Low Density)
pins: 1 5V (power) "5-V input for card power", 2 5V (power) "5-V input for card power", 3 DATA (in) "Logic-level serial data word", 4 CLOCK (in) "Logic-level clock for serial data word", 5 LATCH (in) "Logic-level latch for serial data word, internal pulldown", 6 NC "No internal connection", 7 12V (power) "12-V input for card power (xVPP). The two 12-V pins must be externally connected.", 8 AVPP (power) "Switched output that delivers 3.3 V, 5 V, 12 V, ground or high impedance to card", 9 AVCC (power) "Switched output that delivers 3.3 V, 5 V, ground or high impedance to caed", 10 AVCC (power) "Switched output that delivers 3.3 V, 5 V, ground or high impedance to caed", 11 GND (power) "Ground", 12 ~{RESET} (in) "Logic-level RESET input active low. Asynchronous active-low command, internal pullup", 13 3.3V (power) "3.3-V input for card power and chip power", 14 3.3V (power) "3.3-V input for card power and chip power", 15 ~{OC} (oc) "Open-drain overcurrent reporting output that goes low when an overcurrent condition exists. An external pullup is required.", 16 NC "No internal connection", 17 BVCC (power) "Switched output that delivers 3.3 V, 5 V, ground or high impedance to card", 18 BVCC (power) "Switched output that delivers 3.3 V, 5 V, ground or high impedance to card", 19 BVPP (power) "Switched output that delivers 3.3 V, 5 V, 12 V, ground or high impedance to card", 20 12V (power) "12-V input for card power (xVPP). The two 12-V pins must be externally connected.", 21 ~{SHDN} (in) "Hi-Z (open) all switches. Identical function to serial D8. Asynchronous active-low command, internal pullup", 22 NC "No internal connection", 23 NC "No internal connection", 24 5V (power) "5-V input for card power"

## TPS2224ADBRG4
designator U?
Dual-Slot Cardbus Power-Interface Switch for Serial PCMCIA Controllers, -40 to 85 degC, 24-pin SSOP (DB), Green (RoHS & no Sb/Br); Manufacturer: Texas Instruments; PartNumber: TPS2224ADBRG4; 3V rDS(on)(Typ)(mOhm): 85; 5V rDS(on)(Typ)(mOhm): 95; Adjustable Current Limit(Min)(A): 1; Curr/Temp Protection: TRUE; Ports: 2; SubFamily: PCMCIA/Cardbus Switch Matrix; DatasheetVersion: SLVS428E; PackageVersion: revE, Dec-2001; PackageReference: DB24; PackageDescription: 24-Pin Plastic Small Outline Package, 8.2 x 5.3 mm Body, 0.65 mm Pitch; Supplier 1: Digi-Key; Supplier Part Number 1: TPS2224ADBRG4-ND; Supplier 2: Newark; Supplier Part Number 2: 80K3388; Supplier 3: Mouser; Supplier Part Number 3: 595-TPS2224ADBRG4; Dual: TRUE; Interface: Serial; Over Current Reporting: TRUE; Supports 12V: TRUE; Supports VPP: TRUE; Mounting Technology: Surface Mount; Code_JEDEC: MO-150; ComponentLink1Description: Datasheet; ComponentLink1URL: http://www.ti.com/general/docs/lit/getliterature.tsp?genericPartNumber=TPS2224A&fileType=pdf
footprint DB24_N (SOP, 24-Leads, Body 8.2x5.3mm, Pitch 0.65mm, IPC Medium Density)
footprint DB24_L (SOP, 24-Leads, Body 8.2x5.3mm, Pitch 0.65mm, IPC High Density)
footprint DB24_M (SOP, 24-Leads, Body 8.2x5.3mm, Pitch 0.65mm, IPC Low Density)
pins: 1 5V (power) "5-V input for card power", 2 5V (power) "5-V input for card power", 3 DATA (in) "Logic-level serial data word", 4 CLOCK (in) "Logic-level clock for serial data word", 5 LATCH (in) "Logic-level latch for serial data word, internal pulldown", 6 NC "No internal connection", 7 12V (power) "12-V input for card power (xVPP). The two 12-V pins must be externally connected.", 8 AVPP (power) "Switched output that delivers 3.3 V, 5 V, 12 V, ground or high impedance to card", 9 AVCC (power) "Switched output that delivers 3.3 V, 5 V, ground or high impedance to caed", 10 AVCC (power) "Switched output that delivers 3.3 V, 5 V, ground or high impedance to caed", 11 GND (power) "Ground", 12 ~{RESET} (in) "Logic-level RESET input active low. Asynchronous active-low command, internal pullup", 13 3.3V (power) "3.3-V input for card power and chip power", 14 3.3V (power) "3.3-V input for card power and chip power", 15 ~{OC} (oc) "Open-drain overcurrent reporting output that goes low when an overcurrent condition exists. An external pullup is required.", 16 NC "No internal connection", 17 BVCC (power) "Switched output that delivers 3.3 V, 5 V, ground or high impedance to card", 18 BVCC (power) "Switched output that delivers 3.3 V, 5 V, ground or high impedance to card", 19 BVPP (power) "Switched output that delivers 3.3 V, 5 V, 12 V, ground or high impedance to card", 20 12V (power) "12-V input for card power (xVPP). The two 12-V pins must be externally connected.", 21 ~{SHDN} (in) "Hi-Z (open) all switches. Identical function to serial D8. Asynchronous active-low command, internal pullup", 22 NC "No internal connection", 23 NC "No internal connection", 24 5V (power) "5-V input for card power"

## TPS2224DB
designator U?
1 A Dual-Slot PC Card Power Switch with Serial Interface, -40 to 85 degC, 24-pin SSOP (DB), Green (RoHS & no Sb/Br); Manufacturer: Texas Instruments; PartNumber: TPS2224DB; 3V rDS(on)(Typ)(mOhm): 85; 5V rDS(on)(Typ)(mOhm): 95; Adjustable Current Limit(Min)(A): 1; Curr/Temp Protection: TRUE; Ports: 2; SubFamily: PCMCIA/Cardbus Switch Matrix; DatasheetVersion: SLVS317; PackageVersion: revE, Dec-2001; PackageReference: DB24; PackageDescription: 24-Pin Plastic Small Outline Package, 8.2 x 5.3 mm Body, 0.65 mm Pitch; Supplier 1: Digi-Key; Supplier Part Number 1: 296-12389-5-ND; Supplier 2: Newark; Supplier Part Number 2: 77C0153; Supplier 3: Mouser; Supplier Part Number 3: 595-TPS2224DB; Dual: TRUE; Interface: Serial; Over Current Reporting: TRUE; Supports 12V: TRUE; Supports VPP: TRUE; Mounting Technology: Surface Mount; Code_JEDEC: MO-150; ComponentLink1Description: Datasheet; ComponentLink1URL: http://www.ti.com/general/docs/lit/getliterature.tsp?genericPartNumber=TPS2224&fileType=pdf
footprint DB24_N (SOP, 24-Leads, Body 8.2x5.3mm, Pitch 0.65mm, IPC Medium Density)
footprint DB24_L (SOP, 24-Leads, Body 8.2x5.3mm, Pitch 0.65mm, IPC High Density)
footprint DB24_M (SOP, 24-Leads, Body 8.2x5.3mm, Pitch 0.65mm, IPC Low Density)
pins: 1 5V (power) "5-V input for card power", 2 5V (power) "5-V input for card power", 3 DATA (in) "Logic-level serial data word", 4 CLOCK (in) "Logic-level clock for serial data word", 5 LATCH (in) "Logic-level latch for serial data word, internal pulldown", 6 NC "No internal connection", 7 12V (power) "12-V input for card power (xVPP). The two 12-V pins must be externally connected.", 8 AVPP (power) "Switched output that delivers 3.3 V, 5 V, 12 V, ground or high impedance to card", 9 AVCC (power) "Switched output that delivers 3.3 V, 5 V, ground or high impedance to card", 10 AVCC (power) "Switched output that delivers 3.3 V, 5 V, ground or high impedance to card", 11 GND (power) "Ground", 12 ~{RESET} (in) "Logic-level RESET input active low. Asynchronous active-low command, internal pullup", 13 3.3V (power) "3.3-V input for card power and chip power", 14 3.3V (power) "3.3-V input for card power and chip power", 15 ~{OC} (oc) "Open-drain overcurrent reporting output that goes low when an overcurrent condition exists. An external pullup is required.", 16 NC "No internal connection", 17 BVCC (power) "Switched output that delivers 3.3 V, 5 V, ground or high impedance to card", 18 BVCC (power) "Switched output that delivers 3.3 V, 5 V, ground or high impedance to card", 19 BVPP (power) "Switched output that delivers 3.3 V, 5 V, 12 V, ground or high impedance to card", 20 12V (power) "12-V input for card power (xVPP). The two 12-V pins must be externally connected.", 21 ~{SHDN} (in) "Hi-Z (open) all switches. Identical function to serial D8. Asynchronous active-low command, internal pullup", 22 NC "No internal connection", 23 NC "No internal connection", 24 5V (power) "5-V input for card power"

## TPS2224DBG4
designator U?
1 A Dual-Slot PC Card Power Switch with Serial Interface, -40 to 85 degC, 24-pin SSOP (DB), Green (RoHS & no Sb/Br); Manufacturer: Texas Instruments; PartNumber: TPS2224DBG4; 3V rDS(on)(Typ)(mOhm): 85; 5V rDS(on)(Typ)(mOhm): 95; Adjustable Current Limit(Min)(A): 1; Curr/Temp Protection: TRUE; Ports: 2; SubFamily: PCMCIA/Cardbus Switch Matrix; DatasheetVersion: SLVS317; PackageVersion: revE, Dec-2001; PackageReference: DB24; PackageDescription: 24-Pin Plastic Small Outline Package, 8.2 x 5.3 mm Body, 0.65 mm Pitch; Supplier 1: Digi-Key; Supplier Part Number 1: TPS2224DBG4-ND; Supplier 2: Newark; Supplier Part Number 2: 60M1785; Supplier 3: Mouser; Supplier Part Number 3: 595-TPS2224DBG4; Dual: TRUE; Interface: Serial; Over Current Reporting: TRUE; Supports 12V: TRUE; Supports VPP: TRUE; Mounting Technology: Surface Mount; Code_JEDEC: MO-150; ComponentLink1Description: Datasheet; ComponentLink1URL: http://www.ti.com/general/docs/lit/getliterature.tsp?genericPartNumber=TPS2224&fileType=pdf
footprint DB24_N (SOP, 24-Leads, Body 8.2x5.3mm, Pitch 0.65mm, IPC Medium Density)
footprint DB24_L (SOP, 24-Leads, Body 8.2x5.3mm, Pitch 0.65mm, IPC High Density)
footprint DB24_M (SOP, 24-Leads, Body 8.2x5.3mm, Pitch 0.65mm, IPC Low Density)
pins: 1 5V (power) "5-V input for card power", 2 5V (power) "5-V input for card power", 3 DATA (in) "Logic-level serial data word", 4 CLOCK (in) "Logic-level clock for serial data word", 5 LATCH (in) "Logic-level latch for serial data word, internal pulldown", 6 NC "No internal connection", 7 12V (power) "12-V input for card power (xVPP). The two 12-V pins must be externally connected.", 8 AVPP (power) "Switched output that delivers 3.3 V, 5 V, 12 V, ground or high impedance to card", 9 AVCC (power) "Switched output that delivers 3.3 V, 5 V, ground or high impedance to card", 10 AVCC (power) "Switched output that delivers 3.3 V, 5 V, ground or high impedance to card", 11 GND (power) "Ground", 12 ~{RESET} (in) "Logic-level RESET input active low. Asynchronous active-low command, internal pullup", 13 3.3V (power) "3.3-V input for card power and chip power", 14 3.3V (power) "3.3-V input for card power and chip power", 15 ~{OC} (oc) "Open-drain overcurrent reporting output that goes low when an overcurrent condition exists. An external pullup is required.", 16 NC "No internal connection", 17 BVCC (power) "Switched output that delivers 3.3 V, 5 V, ground or high impedance to card", 18 BVCC (power) "Switched output that delivers 3.3 V, 5 V, ground or high impedance to card", 19 BVPP (power) "Switched output that delivers 3.3 V, 5 V, 12 V, ground or high impedance to card", 20 12V (power) "12-V input for card power (xVPP). The two 12-V pins must be externally connected.", 21 ~{SHDN} (in) "Hi-Z (open) all switches. Identical function to serial D8. Asynchronous active-low command, internal pullup", 22 NC "No internal connection", 23 NC "No internal connection", 24 5V (power) "5-V input for card power"

## TPS2224DBR
designator U?
1 A Dual-Slot PC Card Power Switch with Serial Interface, -40 to 85 degC, 24-pin SSOP (DB), Green (RoHS & no Sb/Br); Manufacturer: Texas Instruments; PartNumber: TPS2224DBR; 3V rDS(on)(Typ)(mOhm): 85; 5V rDS(on)(Typ)(mOhm): 95; Adjustable Current Limit(Min)(A): 1; Curr/Temp Protection: TRUE; Ports: 2; SubFamily: PCMCIA/Cardbus Switch Matrix; DatasheetVersion: SLVS317; PackageVersion: revE, Dec-2001; PackageReference: DB24; PackageDescription: 24-Pin Plastic Small Outline Package, 8.2 x 5.3 mm Body, 0.65 mm Pitch; Supplier 1: Digi-Key; Supplier Part Number 1: TPS2224DBR-ND; Supplier 2: Newark; Supplier Part Number 2: 77C0154; Supplier 3: Mouser; Supplier Part Number 3: 595-TPS2224DBR; Dual: TRUE; Interface: Serial; Over Current Reporting: TRUE; Supports 12V: TRUE; Supports VPP: TRUE; Mounting Technology: Surface Mount; Code_JEDEC: MO-150; ComponentLink1Description: Datasheet; ComponentLink1URL: http://www.ti.com/general/docs/lit/getliterature.tsp?genericPartNumber=TPS2224&fileType=pdf
footprint DB24_N (SOP, 24-Leads, Body 8.2x5.3mm, Pitch 0.65mm, IPC Medium Density)
footprint DB24_L (SOP, 24-Leads, Body 8.2x5.3mm, Pitch 0.65mm, IPC High Density)
footprint DB24_M (SOP, 24-Leads, Body 8.2x5.3mm, Pitch 0.65mm, IPC Low Density)
pins: 1 5V (power) "5-V input for card power", 2 5V (power) "5-V input for card power", 3 DATA (in) "Logic-level serial data word", 4 CLOCK (in) "Logic-level clock for serial data word", 5 LATCH (in) "Logic-level latch for serial data word, internal pulldown", 6 NC "No internal connection", 7 12V (power) "12-V input for card power (xVPP). The two 12-V pins must be externally connected.", 8 AVPP (power) "Switched output that delivers 3.3 V, 5 V, 12 V, ground or high impedance to card", 9 AVCC (power) "Switched output that delivers 3.3 V, 5 V, ground or high impedance to card", 10 AVCC (power) "Switched output that delivers 3.3 V, 5 V, ground or high impedance to card", 11 GND (power) "Ground", 12 ~{RESET} (in) "Logic-level RESET input active low. Asynchronous active-low command, internal pullup", 13 3.3V (power) "3.3-V input for card power and chip power", 14 3.3V (power) "3.3-V input for card power and chip power", 15 ~{OC} (oc) "Open-drain overcurrent reporting output that goes low when an overcurrent condition exists. An external pullup is required.", 16 NC "No internal connection", 17 BVCC (power) "Switched output that delivers 3.3 V, 5 V, ground or high impedance to card", 18 BVCC (power) "Switched output that delivers 3.3 V, 5 V, ground or high impedance to card", 19 BVPP (power) "Switched output that delivers 3.3 V, 5 V, 12 V, ground or high impedance to card", 20 12V (power) "12-V input for card power (xVPP). The two 12-V pins must be externally connected.", 21 ~{SHDN} (in) "Hi-Z (open) all switches. Identical function to serial D8. Asynchronous active-low command, internal pullup", 22 NC "No internal connection", 23 NC "No internal connection", 24 5V (power) "5-V input for card power"

## TPS2224DBRG4
designator U?
1 A Dual-Slot PC Card Power Switch with Serial Interface, -40 to 85 degC, 24-pin SSOP (DB), Green (RoHS & no Sb/Br); Manufacturer: Texas Instruments; PartNumber: TPS2224DBRG4; 3V rDS(on)(Typ)(mOhm): 85; 5V rDS(on)(Typ)(mOhm): 95; Adjustable Current Limit(Min)(A): 1; Curr/Temp Protection: TRUE; Ports: 2; SubFamily: PCMCIA/Cardbus Switch Matrix; DatasheetVersion: SLVS317; PackageVersion: revE, Dec-2001; PackageReference: DB24; PackageDescription: 24-Pin Plastic Small Outline Package, 8.2 x 5.3 mm Body, 0.65 mm Pitch; Supplier 1: Digi-Key; Supplier Part Number 1: TPS2224DBRG4-ND; Supplier 2: Newark; Supplier Part Number 2: 67K8628; Supplier 3: Mouser; Supplier Part Number 3: 595-TPS2224DBRG4; Dual: TRUE; Interface: Serial; Over Current Reporting: TRUE; Supports 12V: TRUE; Supports VPP: TRUE; Mounting Technology: Surface Mount; Code_JEDEC: MO-150; ComponentLink1Description: Datasheet; ComponentLink1URL: http://www.ti.com/general/docs/lit/getliterature.tsp?genericPartNumber=TPS2224&fileType=pdf
footprint DB24_N (SOP, 24-Leads, Body 8.2x5.3mm, Pitch 0.65mm, IPC Medium Density)
footprint DB24_L (SOP, 24-Leads, Body 8.2x5.3mm, Pitch 0.65mm, IPC High Density)
footprint DB24_M (SOP, 24-Leads, Body 8.2x5.3mm, Pitch 0.65mm, IPC Low Density)
pins: 1 5V (power) "5-V input for card power", 2 5V (power) "5-V input for card power", 3 DATA (in) "Logic-level serial data word", 4 CLOCK (in) "Logic-level clock for serial data word", 5 LATCH (in) "Logic-level latch for serial data word, internal pulldown", 6 NC "No internal connection", 7 12V (power) "12-V input for card power (xVPP). The two 12-V pins must be externally connected.", 8 AVPP (power) "Switched output that delivers 3.3 V, 5 V, 12 V, ground or high impedance to card", 9 AVCC (power) "Switched output that delivers 3.3 V, 5 V, ground or high impedance to card", 10 AVCC (power) "Switched output that delivers 3.3 V, 5 V, ground or high impedance to card", 11 GND (power) "Ground", 12 ~{RESET} (in) "Logic-level RESET input active low. Asynchronous active-low command, internal pullup", 13 3.3V (power) "3.3-V input for card power and chip power", 14 3.3V (power) "3.3-V input for card power and chip power", 15 ~{OC} (oc) "Open-drain overcurrent reporting output that goes low when an overcurrent condition exists. An external pullup is required.", 16 NC "No internal connection", 17 BVCC (power) "Switched output that delivers 3.3 V, 5 V, ground or high impedance to card", 18 BVCC (power) "Switched output that delivers 3.3 V, 5 V, ground or high impedance to card", 19 BVPP (power) "Switched output that delivers 3.3 V, 5 V, 12 V, ground or high impedance to card", 20 12V (power) "12-V input for card power (xVPP). The two 12-V pins must be externally connected.", 21 ~{SHDN} (in) "Hi-Z (open) all switches. Identical function to serial D8. Asynchronous active-low command, internal pullup", 22 NC "No internal connection", 23 NC "No internal connection", 24 5V (power) "5-V input for card power"

## TPS2231MRGPR
designator U?
ExpressCard Single Power Interface Switch, -40 to 85 degC, 20-pin QFN (RGP), Green (RoHS & no Sb/Br); Manufacturer: Texas Instruments; PartNumber: TPS2231MRGPR; 3V rDS(on)(Typ)(mOhm): 45; Adjustable Current Limit(Min)(A): 2.5; Curr/Temp Protection: TRUE; Interface: Parallel; Ports: 1; SubFamily: PCMCIA/Cardbus Switch Matrix; DatasheetVersion: SLVS536J; PackageVersion: revG, Jul-2011; PackageReference: RGP20-2200X2200TP; PackageDescription: 20-Pin Plastic Quad Flatpack No-Lead, 4 x 4 mm Body, 0.5 mm Pitch, 2.2 x 2.2 mm Exposed Pad; Supplier 1: Digi-Key; Supplier Part Number 1: 296-21266-2-ND; Supplier 2: Digi-Key; Supplier Part Number 2: 296-21266-1-ND; Supplier 3: Digi-Key; Supplier Part Number 3: 296-21266-6-ND; Supplier 4: Newark; Supplier Part Number 4: 20M5877; Supplier 5: Mouser; Supplier Part Number 5: 595-TPS2231MRGPR; 5V rDS(on)(Typ)(mOhm): 45; Over Current Reporting: TRUE; Over Temp Reporting: TRUE; Single: TRUE; Single Channel: TRUE; Mounting Technology: Surface Mount; ComponentLink1Description: Datasheet; ComponentLink1URL: http://www.ti.com/general/docs/lit/getliterature.tsp?genericPartNumber=TPS2231&fileType=pdf
footprint RGP20-2200X2200TP (QFN, 20-Leads, Body 4x4mm, Pitch 0.5mm, Thermal Pad 2.2x2.2mm, TI Recommended)
pins: 1 ~{STBY} (in) "Standby input - active low, logic level signal. Internally pulled up to AUXIN", 2 3.3VIN (power) "3.3-V input for 3.3VOUT", 3 3.3VOUT (power) "Switched output that delivers 0 V, 3.3 V or high impedance to card", 4 NC "No connection", 5 NC "No connection", 6 ~{SYSRST} (in) "System Reset input - active low, logic level signal. Internally pulled up to AUXIN", 7 GND (power) "Ground", 8 ~{PERST} (out) "A logic level power good to slot 0 (with delay)", 9 ~{CPUSB} (in) "Card Present input for USB cards. Internally pulled up to AUXIN.", 10 ~{CPPE} (in) "Card Present input for PCI Express cards. Internally pulled up to AUXIN", 11 1.5VOUT (power) "Switched output that delivers 0 V, 1.5 V or high impedance to card", 12 1.5VIN (power) "1.5-V input for 1.5VOUT", 13 NC "No connection", 14 NC "No connection", 15 AUXOUT (power) "Switched output that delivers 0 V, AUX or high impedance to card", 16 NC "No connection", 17 AUXIN (power) "AUX input for AUXOUT and chip power", 18 RCLKEN (io) "Reference Clock Enable signal. As an output, a logic level power good to host for slot 0 (no delay - open drain). As an input, if kept inactive (low) by the host, prevents P\E\R\S\T\ FROM BEING de-asserted. Internally pulled (See Datasheet)", 19 ~{OC} (oc) "Overcurrent status output for slot 0 (open drain)", 20 ~{SHDN} (in) "Shutdown input - active low, logic level signal. Internally pulled up to AUXIN", 21 EP